# Altium schematic symbol library Monitor.SchLib: 2 symbols
Pins are listed as number, name and electrical type; pins without a type are passive.

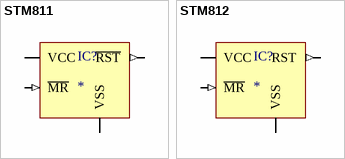
[diagram p0: symbols STM811 to STM812]

## STM811
designator IC?
Low power voltage monitor
footprint SOT143-4_N (SOT143, 4-Leads, Body 1.4x3mm, Lead Span 1.9mm, IPC Medium Density)
pins: 1 VSS (power), 2 ~{RST} (out), 3 ~{MR} (in), 4 VCC (power)

## STM812
designator IC?
Low power voltage monitor
footprint SOT143-4_N (SOT143, 4-Leads, Body 1.4x3mm, Lead Span 1.9mm, IPC Medium Density)
pins: 1 VSS (power), 2 RST (out), 3 ~{MR} (in), 4 VCC (power)